# Altium footprint library ICs.PcbLib: 35 footprints (part 3 of 3)
Each footprint in its own frame and in the unit in brackets; x right, y up, seen from the top. Pads: shape width x height; smd on the part's side, far side on the other; paste and mask are expansions set on the pad; w line width, h text height; cw(c..) or ccw(c..) is an arc to the next point about the centre after c.
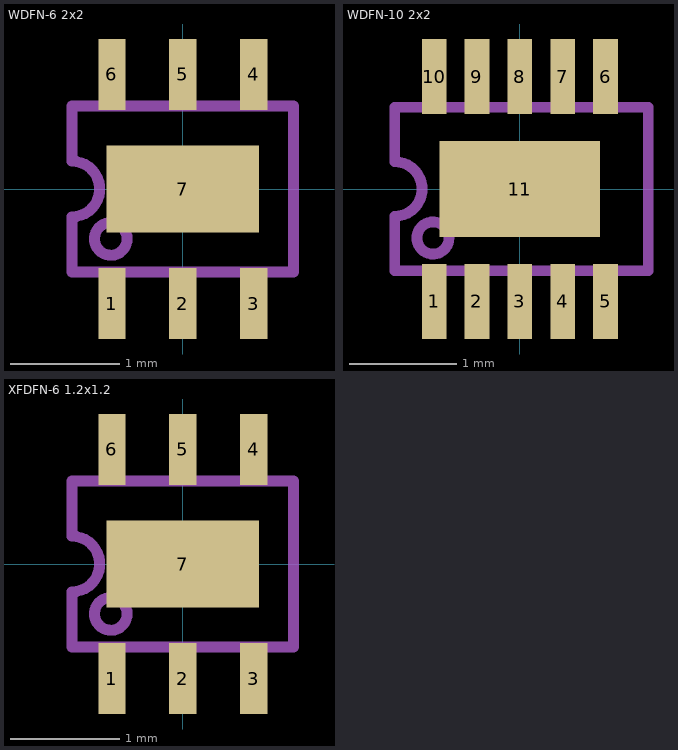
[diagram p2: the footprints below, top view; thin cyan lines are the x and y axes]

## WDFN-6 2x2 [mm]
pads (7):
  rect 0.25x0.65 smd mask+0.051: 1(-0.65,-1.05) 2(0,-1.05) 3(0.65,-1.05) 4(0.65,1.05) 5(0,1.05) 6(-0.65,1.05)
  rect 1.4x0.8 smd mask+0.051: 7(0,0)
Mechanical 7:
  circle w0.1: c-0.66,-0.457 r0.15
  lines w0.1: -1.016,-0.762 -1.016,-0.254 ccw(c-1.016,0) -1.016,0.254 -1.016,0.762 1.016,0.762 1.016,-0.762 -1.016,-0.762
  text ".Designator" at -0.762,-0.381 h1.5
3D body: height 0.8, standoff 0, extent -1.05,-1.05 1.05,1.05

## WDFN-10 2x2 [mm]
pads (11):
  rect 0.23x0.7 smd mask+0.05: 1(-0.8,-1.05) 2(-0.4,-1.05) 3(0,-1.05) 4(0.4,-1.05) 5(0.8,-1.05) 6(0.8,1.05) 7(0.4,1.05) 8(0,1.05) 9(-0.4,1.05) 10(-0.8,1.05)
  rect 1.5x0.9 smd mask+0.051: 11(0,0)
Mechanical 7:
  circle w0.1: c-0.81,-0.457 r0.15
  lines w0.1: -1.166,-0.762 1.2,-0.762 1.2,0.762 -1.166,0.762 -1.166,0.254 cw(c-1.166,0) -1.166,-0.254 -1.166,-0.762
  text ".Designator" at -0.8,-0.1 h0.4
3D body: height 0.8, standoff 0, extent -1.05,-1.05 1.05,1.05

## XFDFN-6 1.2x1.2 [mm]
pads (7):
  rect 0.25x0.65 smd mask+0.051: 1(-0.65,-1.05) 2(0,-1.05) 3(0.65,-1.05) 4(0.65,1.05) 5(0,1.05) 6(-0.65,1.05)
  rect 1.4x0.8 smd mask+0.051: 7(0,0)
Mechanical 7:
  circle w0.1: c-0.66,-0.457 r0.15
  lines w0.1: -1.016,-0.762 -1.016,-0.254 ccw(c-1.016,0) -1.016,0.254 -1.016,0.762 1.016,0.762 1.016,-0.762 -1.016,-0.762
  text ".Designator" at -0.762,-0.381 h1.5
3D body: height 0.8, standoff 0, extent -1.05,-1.05 1.05,1.05